# Altium integrated library NSC MiscPower.IntLib: 1417 symbols (part 20 of 39)
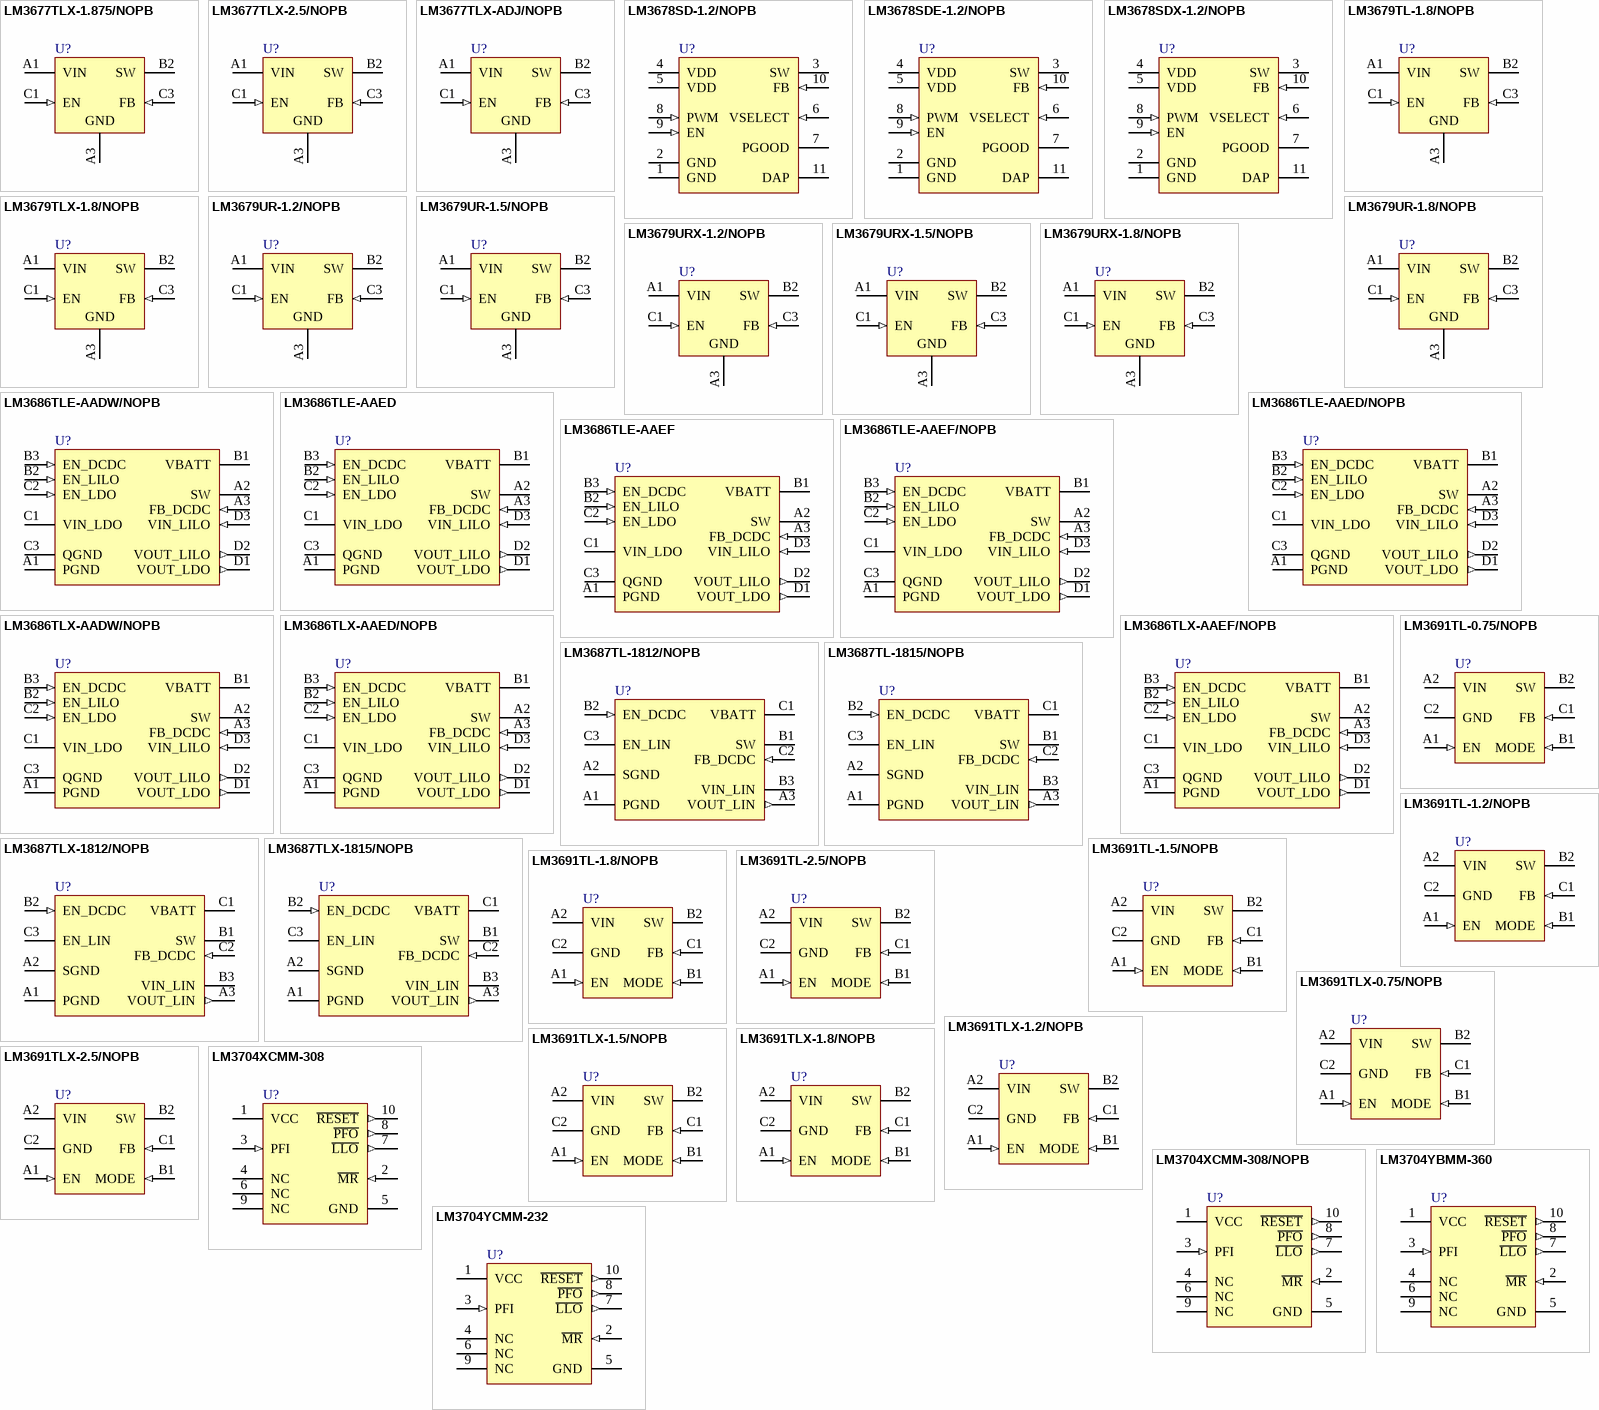
[diagram p70: symbols LM3677TLX-1.875/NOPB to LM3704YCMM-232]

## LM3687TLX-1815/NOPB
designator U?
Step-Down DC-DC Converter with Integrated Low Dropout Regulator and Startup Mode, 9-pin Micro SMD, Pb-Free; PartNumber: LM3687TLX-1815/NOPB; Manufacturer: National Semiconductor; PackageTopMarking: XV*I S9; PowerWise: Y; CompType: MiscPower; Published: 1-Mar-2010; DatasheetVersion: Jul-2008; PackageVersion: revC, Jan-2004; PackageReference: TLA09BBA; Publisher: Altium Limited; PackageDescription: Thin Micro SMD, 9 Bump (Large), 0.5mm Pitch; Supplier 1: Digi-Key; Supplier Part Number 1: LM3687TLX-1815-ND; RoHS: Y; PinCount: 9; Code_JEDEC: MO-211-DD; ComponentLink1Description: LM3687 Datasheet; ComponentLink1URL: http://www.national.com/ds/LM/LM3687.pdf; ComponentLink2Description: LM3687 Web Page; ComponentLink2URL: http://www.national.com/pf/LM/LM3687.html; ComponentLink3Description: TLA09BBA Package Page; ComponentLink3URL: http://www.national.com/packaging/folders/tla09bba.html
footprint TLA09BBA (Micro SMD, 9-Leads, Body 1.54x1.54mm, Pitch 0.5mm, NSC Recommended)
pins: A1 PGND (power), A2 SGND (power), A3 VOUT_LIN (out), B1 SW (power), B2 EN_DCDC (in), B3 VIN_LIN (power), C1 VBATT (power), C2 FB_DCDC (in), C3 EN_LIN (power)

## LM3691TL-0.75/NOPB
designator U?
High Accuracy, Miniature 1A, Step-Down DC-DC Converter for Portable Applications, 6-pin Micro SMD, Pb-Free; PartNumber: LM3691TL-0.75/NOPB; Manufacturer: National Semiconductor; PackageTopMarking: XV*I V; PowerWise: Y; CompType: MiscPower; Published: 1-Mar-2010; DatasheetVersion: Jan-2009; PackageVersion: revC, Jan-2004; PackageReference: TLA06LCA; Publisher: Altium Limited; PackageDescription: Thin Micro SMD, 6 Bump (Large), 0.5mm Pitch; Supplier 1: Digi-Key; Supplier Part Number 1: LM3691TL-0.75TR-ND; Supplier 2: Digi-Key; Supplier Part Number 2: LM3691TL-0.75CT-ND; Supplier 3: Digi-Key; Supplier Part Number 3: LM3691TL-0.75DKR-ND; RoHS: Y; PinCount: 6; Code_JEDEC: MO-211-DB; ComponentLink1Description: LM3691 Datasheet; ComponentLink1URL: http://www.national.com/ds/LM/LM3691.pdf; ComponentLink2Description: LM3691 Web Page; ComponentLink2URL: http://www.national.com/pf/LM/LM3691.html; ComponentLink3Description: TLA06LCA Package Page; ComponentLink3URL: http://www.national.com/packaging/folders/tla06lca.html
footprint TLA06LCA (Micro SMD, 6-Leads, Body 1.57x1.26mm, Pitch 0.5mm, NSC Recommended)
pins: A1 EN (in), A2 VIN (power), B1 MODE (in), B2 SW (power), C1 FB (in), C2 GND (power)

## LM3691TL-1.2/NOPB
designator U?
High Accuracy, Miniature 1A, Step-Down DC-DC Converter for Portable Applications, 6-pin Micro SMD, Pb-Free; PartNumber: LM3691TL-1.2/NOPB; Manufacturer: National Semiconductor; PackageTopMarking: XV*I X; PowerWise: Y; CompType: MiscPower; Published: 1-Mar-2010; DatasheetVersion: Jan-2009; PackageVersion: revC, Jan-2004; PackageReference: TLA06LCA; Publisher: Altium Limited; PackageDescription: Thin Micro SMD, 6 Bump (Large), 0.5mm Pitch; Supplier 1: Digi-Key; Supplier Part Number 1: LM3691TL-1.2TR-ND; Supplier 2: Digi-Key; Supplier Part Number 2: LM3691TL-1.2CT-ND; Supplier 3: Digi-Key; Supplier Part Number 3: LM3691TL-1.2DKR-ND; RoHS: Y; PinCount: 6; Code_JEDEC: MO-211-DB; ComponentLink1Description: LM3691 Datasheet; ComponentLink1URL: http://www.national.com/ds/LM/LM3691.pdf; ComponentLink2Description: LM3691 Web Page; ComponentLink2URL: http://www.national.com/pf/LM/LM3691.html; ComponentLink3Description: TLA06LCA Package Page; ComponentLink3URL: http://www.national.com/packaging/folders/tla06lca.html
footprint TLA06LCA (Micro SMD, 6-Leads, Body 1.57x1.26mm, Pitch 0.5mm, NSC Recommended)
pins: A1 EN (in), A2 VIN (power), B1 MODE (in), B2 SW (power), C1 FB (in), C2 GND (power)

## LM3691TL-1.5/NOPB
designator U?
High Accuracy, Miniature 1A, Step-Down DC-DC Converter for Portable Applications, 6-pin Micro SMD, Pb-Free; PartNumber: LM3691TL-1.5/NOPB; Manufacturer: National Semiconductor; PackageTopMarking: XV*I Y; PowerWise: Y; CompType: MiscPower; Published: 1-Mar-2010; DatasheetVersion: Jan-2009; PackageVersion: revC, Jan-2004; PackageReference: TLA06LCA; Publisher: Altium Limited; PackageDescription: Thin Micro SMD, 6 Bump (Large), 0.5mm Pitch; Supplier 1: Digi-Key; Supplier Part Number 1: LM3691TL-1.5TR-ND; Supplier 2: Digi-Key; Supplier Part Number 2: LM3691TL-1.5CT-ND; Supplier 3: Digi-Key; Supplier Part Number 3: LM3691TL-1.5DKR-ND; RoHS: Y; PinCount: 6; Code_JEDEC: MO-211-DB; ComponentLink1Description: LM3691 Datasheet; ComponentLink1URL: http://www.national.com/ds/LM/LM3691.pdf; ComponentLink2Description: LM3691 Web Page; ComponentLink2URL: http://www.national.com/pf/LM/LM3691.html; ComponentLink3Description: TLA06LCA Package Page; ComponentLink3URL: http://www.national.com/packaging/folders/tla06lca.html
footprint TLA06LCA (Micro SMD, 6-Leads, Body 1.57x1.26mm, Pitch 0.5mm, NSC Recommended)
pins: A1 EN (in), A2 VIN (power), B1 MODE (in), B2 SW (power), C1 FB (in), C2 GND (power)

## LM3691TL-1.8/NOPB
designator U?
High Accuracy, Miniature 1A, Step-Down DC-DC Converter for Portable Applications, 6-pin Micro SMD, Pb-Free; PartNumber: LM3691TL-1.8/NOPB; Manufacturer: National Semiconductor; PackageTopMarking: XV*I Z; PowerWise: Y; CompType: MiscPower; Published: 1-Mar-2010; DatasheetVersion: Jan-2009; PackageVersion: revC, Jan-2004; PackageReference: TLA06LCA; Publisher: Altium Limited; PackageDescription: Thin Micro SMD, 6 Bump (Large), 0.5mm Pitch; Supplier 1: Digi-Key; Supplier Part Number 1: LM3691TL-1.8TR-ND; Supplier 2: Digi-Key; Supplier Part Number 2: LM3691TL-1.8CT-ND; Supplier 3: Digi-Key; Supplier Part Number 3: LM3691TL-1.8DKR-ND; RoHS: Y; PinCount: 6; Code_JEDEC: MO-211-DB; ComponentLink1Description: LM3691 Datasheet; ComponentLink1URL: http://www.national.com/ds/LM/LM3691.pdf; ComponentLink2Description: LM3691 Web Page; ComponentLink2URL: http://www.national.com/pf/LM/LM3691.html; ComponentLink3Description: TLA06LCA Package Page; ComponentLink3URL: http://www.national.com/packaging/folders/tla06lca.html
footprint TLA06LCA (Micro SMD, 6-Leads, Body 1.57x1.26mm, Pitch 0.5mm, NSC Recommended)
pins: A1 EN (in), A2 VIN (power), B1 MODE (in), B2 SW (power), C1 FB (in), C2 GND (power)

## LM3691TL-2.5/NOPB
designator U?
High Accuracy, Miniature 1A, Step-Down DC-DC Converter for Portable Applications, 6-pin Micro SMD, Pb-Free; PartNumber: LM3691TL-2.5/NOPB; Manufacturer: National Semiconductor; PackageTopMarking: XV*I 8; PowerWise: N; CompType: MiscPower; Published: 1-Mar-2010; DatasheetVersion: Jan-2009; PackageVersion: revC, Jan-2004; PackageReference: TLA06LCA; Publisher: Altium Limited; PackageDescription: Thin Micro SMD, 6 Bump (Large), 0.5mm Pitch; Supplier 1: Digi-Key; Supplier Part Number 1: LM3691TL-2.5TR-ND; Supplier 2: Digi-Key; Supplier Part Number 2: LM3691TL-2.5CT-ND; Supplier 3: Digi-Key; Supplier Part Number 3: LM3691TL-2.5DKR-ND; RoHS: Y; PinCount: 6; Code_JEDEC: MO-211-DB; ComponentLink1Description: LM3691 Datasheet; ComponentLink1URL: http://www.national.com/ds/LM/LM3691.pdf; ComponentLink2Description: LM3691 Web Page; ComponentLink2URL: http://www.national.com/pf/LM/LM3691.html; ComponentLink3Description: TLA06LCA Package Page; ComponentLink3URL: http://www.national.com/packaging/folders/tla06lca.html
footprint TLA06LCA (Micro SMD, 6-Leads, Body 1.57x1.26mm, Pitch 0.5mm, NSC Recommended)
pins: A1 EN (in), A2 VIN (power), B1 MODE (in), B2 SW (power), C1 FB (in), C2 GND (power)

## LM3691TLX-0.75/NOPB
designator U?
High Accuracy, Miniature 1A, Step-Down DC-DC Converter for Portable Applications, 6-pin Micro SMD, Pb-Free; PartNumber: LM3691TLX-0.75/NOPB; Manufacturer: National Semiconductor; PackageTopMarking: XV*I V; PowerWise: Y; CompType: MiscPower; Published: 1-Mar-2010; DatasheetVersion: Jan-2009; PackageVersion: revC, Jan-2004; PackageReference: TLA06LCA; Publisher: Altium Limited; PackageDescription: Thin Micro SMD, 6 Bump (Large), 0.5mm Pitch; Supplier 1: Digi-Key; Supplier Part Number 1: LM3691TLX-0.75-ND; RoHS: Y; PinCount: 6; Code_JEDEC: MO-211-DB; ComponentLink1Description: LM3691 Datasheet; ComponentLink1URL: http://www.national.com/ds/LM/LM3691.pdf; ComponentLink2Description: LM3691 Web Page; ComponentLink2URL: http://www.national.com/pf/LM/LM3691.html; ComponentLink3Description: TLA06LCA Package Page; ComponentLink3URL: http://www.national.com/packaging/folders/tla06lca.html
footprint TLA06LCA (Micro SMD, 6-Leads, Body 1.57x1.26mm, Pitch 0.5mm, NSC Recommended)
pins: A1 EN (in), A2 VIN (power), B1 MODE (in), B2 SW (power), C1 FB (in), C2 GND (power)

## LM3691TLX-1.2/NOPB
designator U?
High Accuracy, Miniature 1A, Step-Down DC-DC Converter for Portable Applications, 6-pin Micro SMD, Pb-Free; PartNumber: LM3691TLX-1.2/NOPB; Manufacturer: National Semiconductor; PackageTopMarking: XV*I X; PowerWise: Y; CompType: MiscPower; Published: 1-Mar-2010; DatasheetVersion: Jan-2009; PackageVersion: revC, Jan-2004; PackageReference: TLA06LCA; Publisher: Altium Limited; PackageDescription: Thin Micro SMD, 6 Bump (Large), 0.5mm Pitch; Supplier 1: Digi-Key; Supplier Part Number 1: LM3691TLX-1.2-ND; RoHS: Y; PinCount: 6; Code_JEDEC: MO-211-DB; ComponentLink1Description: LM3691 Datasheet; ComponentLink1URL: http://www.national.com/ds/LM/LM3691.pdf; ComponentLink2Description: LM3691 Web Page; ComponentLink2URL: http://www.national.com/pf/LM/LM3691.html; ComponentLink3Description: TLA06LCA Package Page; ComponentLink3URL: http://www.national.com/packaging/folders/tla06lca.html
footprint TLA06LCA (Micro SMD, 6-Leads, Body 1.57x1.26mm, Pitch 0.5mm, NSC Recommended)
pins: A1 EN (in), A2 VIN (power), B1 MODE (in), B2 SW (power), C1 FB (in), C2 GND (power)

## LM3691TLX-1.5/NOPB
designator U?
High Accuracy, Miniature 1A, Step-Down DC-DC Converter for Portable Applications, 6-pin Micro SMD, Pb-Free; PartNumber: LM3691TLX-1.5/NOPB; Manufacturer: National Semiconductor; PackageTopMarking: XV*I Y; PowerWise: Y; CompType: MiscPower; Published: 1-Mar-2010; DatasheetVersion: Jan-2009; PackageVersion: revC, Jan-2004; PackageReference: TLA06LCA; Publisher: Altium Limited; PackageDescription: Thin Micro SMD, 6 Bump (Large), 0.5mm Pitch; Supplier 1: Digi-Key; Supplier Part Number 1: LM3691TLX-1.5-ND; RoHS: Y; PinCount: 6; Code_JEDEC: MO-211-DB; ComponentLink1Description: LM3691 Datasheet; ComponentLink1URL: http://www.national.com/ds/LM/LM3691.pdf; ComponentLink2Description: LM3691 Web Page; ComponentLink2URL: http://www.national.com/pf/LM/LM3691.html; ComponentLink3Description: TLA06LCA Package Page; ComponentLink3URL: http://www.national.com/packaging/folders/tla06lca.html
footprint TLA06LCA (Micro SMD, 6-Leads, Body 1.57x1.26mm, Pitch 0.5mm, NSC Recommended)
pins: A1 EN (in), A2 VIN (power), B1 MODE (in), B2 SW (power), C1 FB (in), C2 GND (power)

## LM3691TLX-1.8/NOPB
designator U?
High Accuracy, Miniature 1A, Step-Down DC-DC Converter for Portable Applications, 6-pin Micro SMD, Pb-Free; PartNumber: LM3691TLX-1.8/NOPB; Manufacturer: National Semiconductor; PackageTopMarking: XV*I Z; PowerWise: Y; CompType: MiscPower; Published: 1-Mar-2010; DatasheetVersion: Jan-2009; PackageVersion: revC, Jan-2004; PackageReference: TLA06LCA; Publisher: Altium Limited; PackageDescription: Thin Micro SMD, 6 Bump (Large), 0.5mm Pitch; Supplier 1: Digi-Key; Supplier Part Number 1: LM3691TLX-1.8-ND; RoHS: Y; PinCount: 6; Code_JEDEC: MO-211-DB; ComponentLink1Description: LM3691 Datasheet; ComponentLink1URL: http://www.national.com/ds/LM/LM3691.pdf; ComponentLink2Description: LM3691 Web Page; ComponentLink2URL: http://www.national.com/pf/LM/LM3691.html; ComponentLink3Description: TLA06LCA Package Page; ComponentLink3URL: http://www.national.com/packaging/folders/tla06lca.html
footprint TLA06LCA (Micro SMD, 6-Leads, Body 1.57x1.26mm, Pitch 0.5mm, NSC Recommended)
pins: A1 EN (in), A2 VIN (power), B1 MODE (in), B2 SW (power), C1 FB (in), C2 GND (power)

## LM3691TLX-2.5/NOPB
designator U?
High Accuracy, Miniature 1A, Step-Down DC-DC Converter for Portable Applications, 6-pin Micro SMD, Pb-Free; PartNumber: LM3691TLX-2.5/NOPB; Manufacturer: National Semiconductor; PackageTopMarking: XV*I 8; PowerWise: N; CompType: MiscPower; Published: 1-Mar-2010; DatasheetVersion: Jan-2009; PackageVersion: revC, Jan-2004; PackageReference: TLA06LCA; Publisher: Altium Limited; PackageDescription: Thin Micro SMD, 6 Bump (Large), 0.5mm Pitch; Supplier 1: Digi-Key; Supplier Part Number 1: LM3691TLX-2.5-ND; RoHS: Y; PinCount: 6; Code_JEDEC: MO-211-DB; ComponentLink1Description: LM3691 Datasheet; ComponentLink1URL: http://www.national.com/ds/LM/LM3691.pdf; ComponentLink2Description: LM3691 Web Page; ComponentLink2URL: http://www.national.com/pf/LM/LM3691.html; ComponentLink3Description: TLA06LCA Package Page; ComponentLink3URL: http://www.national.com/packaging/folders/tla06lca.html
footprint TLA06LCA (Micro SMD, 6-Leads, Body 1.57x1.26mm, Pitch 0.5mm, NSC Recommended)
pins: A1 EN (in), A2 VIN (power), B1 MODE (in), B2 SW (power), C1 FB (in), C2 GND (power)

## LM3704XCMM-308
designator U?
Microprocessor Supervisory Circuits with Power Fail Input, Low Line Output and Manual Reset, 10-pin MSOP; PartNumber: LM3704XCMM-308; Manufacturer: National Semiconductor; PackageTopMarking: ZXTT*R35B; PowerWise: N; CompType: MiscPower; Published: 4-Dec-2008; DatasheetVersion: Sep-2003; PackageVersion: revB, Jul-2003; PackageReference: MUB10A; Publisher: Altium Limited; PackageDescription: Mini-SO, Molded, .118 x .118 x .034in Body, 10 Lead, .0197in Pitch; RoHS: N; PinCount: 10; Code_JEDEC: MO-187-BA; ComponentLink1Description: LM3704 Datasheet; ComponentLink1URL: http://www.national.com/ds/LM/LM3704.pdf; ComponentLink2Description: LM3704 Web Page; ComponentLink2URL: http://www.national.com/pf/LM/LM3704.html; ComponentLink3Description: MUB10A Package Page; ComponentLink3URL: http://www.national.com/packaging/folders/mub10a.html
footprint MUB10A_N (TSSOP, 10-Leads, Body 3x3mm, Pitch 0.5mm, IPC Medium Density)
footprint MUB10A_L (TSSOP, 10-Leads, Body 3x3mm, Pitch 0.5mm, IPC High Density)
footprint MUB10A_M (TSSOP, 10-Leads, Body 3x3mm, Pitch 0.5mm, IPC Low Density)
pins: 1 VCC (power), 2 ~{MR} (in), 3 PFI (in), 4 NC, 5 GND (power), 6 NC, 7 ~{LLO} (out), 8 ~{PFO} (out), 9 NC, 10 ~{RESET} (out)

## LM3704XCMM-308/NOPB
designator U?
Microprocessor Supervisory Circuits with Power Fail Input, Low Line Output and Manual Reset, 10-pin MSOP, Pb-Free; PartNumber: LM3704XCMM-308/NOPB; Manufacturer: National Semiconductor; PackageTopMarking: ZXTT*R35B; PowerWise: N; CompType: MiscPower; Published: 1-Mar-2010; DatasheetVersion: Sep-2003; PackageVersion: revB, Jul-2003; PackageReference: MUB10A; Publisher: Altium Limited; PackageDescription: Mini-SO, Molded, .118 x .118 x .034in Body, 10 Lead, .0197in Pitch; Supplier 1: Digi-Key; Supplier Part Number 1: LM3704XCMM-308TR-ND; Supplier 2: Digi-Key; Supplier Part Number 2: LM3704XCMM-308CT-ND; Supplier 3: Digi-Key; Supplier Part Number 3: LM3704XCMM-308DKR-ND; Supplier 4: Farnell; Supplier Part Number 4: 1685655; RoHS: Y; PinCount: 10; Code_JEDEC: MO-187-BA; ComponentLink1Description: LM3704 Datasheet; ComponentLink1URL: http://www.national.com/ds/LM/LM3704.pdf; ComponentLink2Description: LM3704 Web Page; ComponentLink2URL: http://www.national.com/pf/LM/LM3704.html; ComponentLink3Description: MUB10A Package Page; ComponentLink3URL: http://www.national.com/packaging/folders/mub10a.html
footprint MUB10A_N (TSSOP, 10-Leads, Body 3x3mm, Pitch 0.5mm, IPC Medium Density)
footprint MUB10A_L (TSSOP, 10-Leads, Body 3x3mm, Pitch 0.5mm, IPC High Density)
footprint MUB10A_M (TSSOP, 10-Leads, Body 3x3mm, Pitch 0.5mm, IPC Low Density)
pins: 1 VCC (power), 2 ~{MR} (in), 3 PFI (in), 4 NC, 5 GND (power), 6 NC, 7 ~{LLO} (out), 8 ~{PFO} (out), 9 NC, 10 ~{RESET} (out)

## LM3704YBMM-360
designator U?
Microprocessor Supervisory Circuits with Power Fail Input, Low Line Output and Manual Reset, 10-pin MSOP; PartNumber: LM3704YBMM-360; Manufacturer: National Semiconductor; PackageTopMarking: ZXTT*R49B; PowerWise: N; CompType: MiscPower; Published: 4-Dec-2008; DatasheetVersion: Sep-2003; PackageVersion: revB, Jul-2003; PackageReference: MUB10A; Publisher: Altium Limited; PackageDescription: Mini-SO, Molded, .118 x .118 x .034in Body, 10 Lead, .0197in Pitch; Supplier 1: Farnell; Supplier Part Number 1: 1312722; RoHS: N; PinCount: 10; Code_JEDEC: MO-187-BA; ComponentLink1Description: LM3704 Datasheet; ComponentLink1URL: http://www.national.com/ds/LM/LM3704.pdf; ComponentLink2Description: LM3704 Web Page; ComponentLink2URL: http://www.national.com/pf/LM/LM3704.html; ComponentLink3Description: MUB10A Package Page; ComponentLink3URL: http://www.national.com/packaging/folders/mub10a.html
footprint MUB10A_N (TSSOP, 10-Leads, Body 3x3mm, Pitch 0.5mm, IPC Medium Density)
footprint MUB10A_L (TSSOP, 10-Leads, Body 3x3mm, Pitch 0.5mm, IPC High Density)
footprint MUB10A_M (TSSOP, 10-Leads, Body 3x3mm, Pitch 0.5mm, IPC Low Density)
pins: 1 VCC (power), 2 ~{MR} (in), 3 PFI (in), 4 NC, 5 GND (power), 6 NC, 7 ~{LLO} (out), 8 ~{PFO} (out), 9 NC, 10 ~{RESET} (out)

## LM3704YCMM-232
designator U?
Microprocessor Supervisory Circuits with Power Fail Input, Low Line Output and Manual Reset, 10-pin MSOP; PartNumber: LM3704YCMM-232; Manufacturer: National Semiconductor; PackageTopMarking: ZXTT*R76B; PowerWise: N; CompType: MiscPower; Published: 4-Dec-2008; DatasheetVersion: Sep-2003; PackageVersion: revB, Jul-2003; PackageReference: MUB10A; Publisher: Altium Limited; PackageDescription: Mini-SO, Molded, .118 x .118 x .034in Body, 10 Lead, .0197in Pitch; Supplier 1: Farnell; Supplier Part Number 1: 1312723; RoHS: N; PinCount: 10; Code_JEDEC: MO-187-BA; ComponentLink1Description: LM3704 Datasheet; ComponentLink1URL: http://www.national.com/ds/LM/LM3704.pdf; ComponentLink2Description: LM3704 Web Page; ComponentLink2URL: http://www.national.com/pf/LM/LM3704.html; ComponentLink3Description: MUB10A Package Page; ComponentLink3URL: http://www.national.com/packaging/folders/mub10a.html
footprint MUB10A_N (TSSOP, 10-Leads, Body 3x3mm, Pitch 0.5mm, IPC Medium Density)
footprint MUB10A_L (TSSOP, 10-Leads, Body 3x3mm, Pitch 0.5mm, IPC High Density)
footprint MUB10A_M (TSSOP, 10-Leads, Body 3x3mm, Pitch 0.5mm, IPC Low Density)
pins: 1 VCC (power), 2 ~{MR} (in), 3 PFI (in), 4 NC, 5 GND (power), 6 NC, 7 ~{LLO} (out), 8 ~{PFO} (out), 9 NC, 10 ~{RESET} (out)

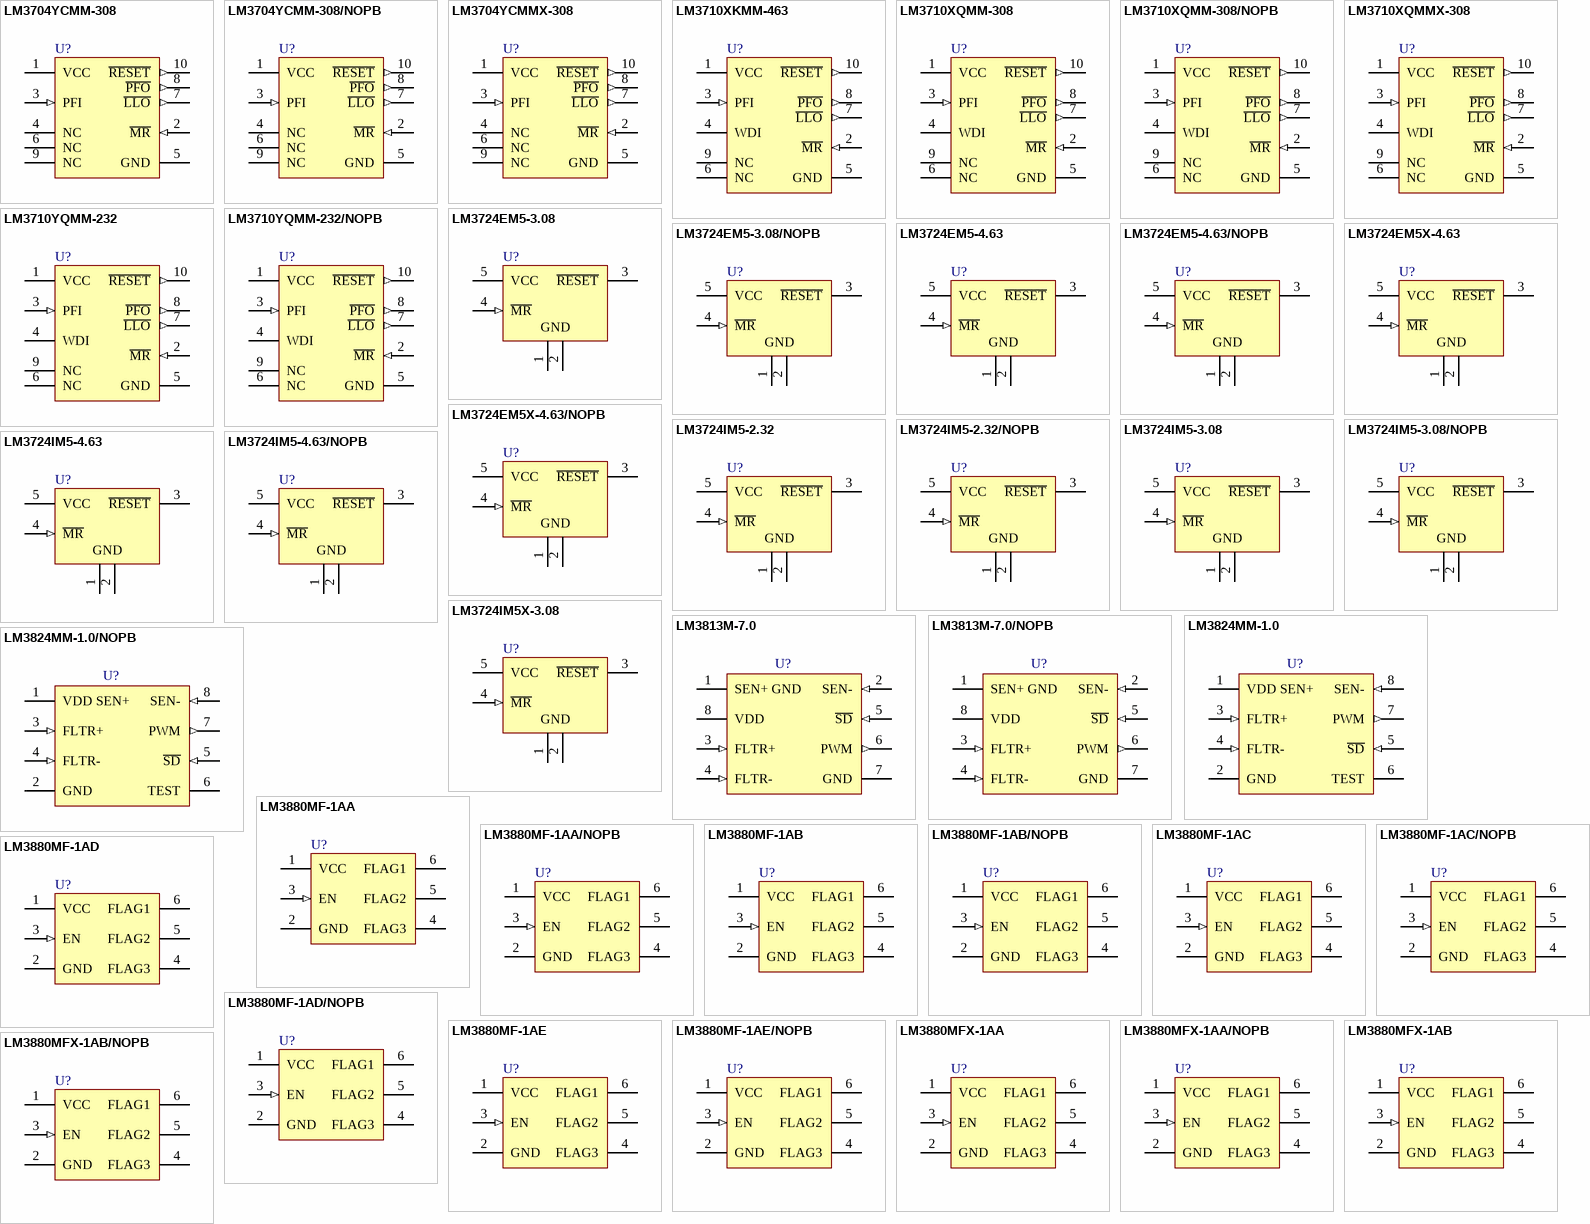
[diagram p22: symbols LM3704YCMM-308 to LM3880MFX-1AB/NOPB]

## LM3704YCMM-308
designator U?
Microprocessor Supervisory Circuits with Power Fail Input, Low Line Output and Manual Reset, 10-pin MSOP; PartNumber: LM3704YCMM-308; Manufacturer: National Semiconductor; PackageTopMarking: ZXTT*R48B; PowerWise: N; CompType: MiscPower; Published: 4-Dec-2008; DatasheetVersion: Sep-2003; PackageVersion: revB, Jul-2003; PackageReference: MUB10A; Publisher: Altium Limited; PackageDescription: Mini-SO, Molded, .118 x .118 x .034in Body, 10 Lead, .0197in Pitch; Supplier 1: Farnell; Supplier Part Number 1: 1312724; RoHS: N; PinCount: 10; Code_JEDEC: MO-187-BA; ComponentLink1Description: LM3704 Datasheet; ComponentLink1URL: http://www.national.com/ds/LM/LM3704.pdf; ComponentLink2Description: LM3704 Web Page; ComponentLink2URL: http://www.national.com/pf/LM/LM3704.html; ComponentLink3Description: MUB10A Package Page; ComponentLink3URL: http://www.national.com/packaging/folders/mub10a.html
footprint MUB10A_N (TSSOP, 10-Leads, Body 3x3mm, Pitch 0.5mm, IPC Medium Density)
footprint MUB10A_L (TSSOP, 10-Leads, Body 3x3mm, Pitch 0.5mm, IPC High Density)
footprint MUB10A_M (TSSOP, 10-Leads, Body 3x3mm, Pitch 0.5mm, IPC Low Density)
pins: 1 VCC (power), 2 ~{MR} (in), 3 PFI (in), 4 NC, 5 GND (power), 6 NC, 7 ~{LLO} (out), 8 ~{PFO} (out), 9 NC, 10 ~{RESET} (out)

## LM3704YCMM-308/NOPB
designator U?
Microprocessor Supervisory Circuits with Power Fail Input, Low Line Output and Manual Reset, 10-pin MSOP, Pb-Free; PartNumber: LM3704YCMM-308/NOPB; Manufacturer: National Semiconductor; PackageTopMarking: ZXTT*R48B; PowerWise: N; CompType: MiscPower; Published: 1-Mar-2010; DatasheetVersion: Sep-2003; PackageVersion: revB, Jul-2003; PackageReference: MUB10A; Publisher: Altium Limited; PackageDescription: Mini-SO, Molded, .118 x .118 x .034in Body, 10 Lead, .0197in Pitch; Supplier 1: Digi-Key; Supplier Part Number 1: LM3704YCMM-308TR-ND; Supplier 2: Digi-Key; Supplier Part Number 2: LM3704YCMM-308CT-ND; Supplier 3: Digi-Key; Supplier Part Number 3: LM3704YCMM-308DKR-ND; RoHS: Y; PinCount: 10; Code_JEDEC: MO-187-BA; ComponentLink1Description: LM3704 Datasheet; ComponentLink1URL: http://www.national.com/ds/LM/LM3704.pdf; ComponentLink2Description: LM3704 Web Page; ComponentLink2URL: http://www.national.com/pf/LM/LM3704.html; ComponentLink3Description: MUB10A Package Page; ComponentLink3URL: http://www.national.com/packaging/folders/mub10a.html
footprint MUB10A_N (TSSOP, 10-Leads, Body 3x3mm, Pitch 0.5mm, IPC Medium Density)
footprint MUB10A_L (TSSOP, 10-Leads, Body 3x3mm, Pitch 0.5mm, IPC High Density)
footprint MUB10A_M (TSSOP, 10-Leads, Body 3x3mm, Pitch 0.5mm, IPC Low Density)
pins: 1 VCC (power), 2 ~{MR} (in), 3 PFI (in), 4 NC, 5 GND (power), 6 NC, 7 ~{LLO} (out), 8 ~{PFO} (out), 9 NC, 10 ~{RESET} (out)

## LM3704YCMMX-308
designator U?
Microprocessor Supervisory Circuits with Power Fail Input, Low Line Output and Manual Reset, 10-pin MSOP; PartNumber: LM3704YCMMX-308; Manufacturer: National Semiconductor; PackageTopMarking: ZXTT*R48B; PowerWise: N; CompType: MiscPower; Published: 1-Mar-2010; DatasheetVersion: Sep-2003; PackageVersion: revB, Jul-2003; PackageReference: MUB10A; Publisher: Altium Limited; PackageDescription: Mini-SO, Molded, .118 x .118 x .034in Body, 10 Lead, .0197in Pitch; RoHS: N; PinCount: 10; Code_JEDEC: MO-187-BA; ComponentLink1Description: LM3704 Datasheet; ComponentLink1URL: http://www.national.com/ds/LM/LM3704.pdf; ComponentLink2Description: LM3704 Web Page; ComponentLink2URL: http://www.national.com/pf/LM/LM3704.html; ComponentLink3Description: MUB10A Package Page; ComponentLink3URL: http://www.national.com/packaging/folders/mub10a.html
footprint MUB10A_N (TSSOP, 10-Leads, Body 3x3mm, Pitch 0.5mm, IPC Medium Density)
footprint MUB10A_L (TSSOP, 10-Leads, Body 3x3mm, Pitch 0.5mm, IPC High Density)
footprint MUB10A_M (TSSOP, 10-Leads, Body 3x3mm, Pitch 0.5mm, IPC Low Density)
pins: 1 VCC (power), 2 ~{MR} (in), 3 PFI (in), 4 NC, 5 GND (power), 6 NC, 7 ~{LLO} (out), 8 ~{PFO} (out), 9 NC, 10 ~{RESET} (out)

## LM3710XKMM-463
designator U?
Microprocessor Supervisory Circuits with Power Fail Input, Low Line Output, Manual Reset and Watchdog Timer, 10-pin MSOP; PartNumber: LM3710XKMM-463; Manufacturer: National Semiconductor; PackageTopMarking: ZXTT*R74B; PowerWise: N; CompType: MiscPower; Published: 4-Dec-2008; DatasheetVersion: Jan-2005; PackageVersion: revB, Jul-2003; PackageReference: MUB10A; Publisher: Altium Limited; PackageDescription: Mini-SO, Molded, .118 x .118 x .034in Body, 10 Lead, .0197in Pitch; RoHS: N; PinCount: 10; Code_JEDEC: MO-187-BA; ComponentLink1Description: LM3710 Datasheet; ComponentLink1URL: http://www.national.com/ds/LM/LM3710.pdf; ComponentLink2Description: LM3710 Web Page; ComponentLink2URL: http://www.national.com/pf/LM/LM3710.html; ComponentLink3Description: MUB10A Package Page; ComponentLink3URL: http://www.national.com/packaging/folders/mub10a.html
footprint MUB10A_N (TSSOP, 10-Leads, Body 3x3mm, Pitch 0.5mm, IPC Medium Density)
footprint MUB10A_L (TSSOP, 10-Leads, Body 3x3mm, Pitch 0.5mm, IPC High Density)
footprint MUB10A_M (TSSOP, 10-Leads, Body 3x3mm, Pitch 0.5mm, IPC Low Density)
pins: 1 VCC (power), 2 ~{MR} (in), 3 PFI (in), 4 WDI, 5 GND (power), 6 NC, 7 ~{LLO} (out), 8 ~{PFO} (out), 9 NC, 10 ~{RESET} (out)

## LM3710XQMM-308
designator U?
Microprocessor Supervisory Circuits with Power Fail Input, Low Line Output, Manual Reset and Watchdog Timer, 10-pin MSOP; PartNumber: LM3710XQMM-308; Manufacturer: National Semiconductor; PackageTopMarking: ZXTT*R37B; PowerWise: N; CompType: MiscPower; Published: 4-Dec-2008; DatasheetVersion: Jan-2005; PackageVersion: revB, Jul-2003; PackageReference: MUB10A; Publisher: Altium Limited; PackageDescription: Mini-SO, Molded, .118 x .118 x .034in Body, 10 Lead, .0197in Pitch; Supplier 1: Farnell; Supplier Part Number 1: 1798323; RoHS: N; PinCount: 10; Code_JEDEC: MO-187-BA; ComponentLink1Description: LM3710 Datasheet; ComponentLink1URL: http://www.national.com/ds/LM/LM3710.pdf; ComponentLink2Description: LM3710 Web Page; ComponentLink2URL: http://www.national.com/pf/LM/LM3710.html; ComponentLink3Description: MUB10A Package Page; ComponentLink3URL: http://www.national.com/packaging/folders/mub10a.html
footprint MUB10A_N (TSSOP, 10-Leads, Body 3x3mm, Pitch 0.5mm, IPC Medium Density)
footprint MUB10A_L (TSSOP, 10-Leads, Body 3x3mm, Pitch 0.5mm, IPC High Density)
footprint MUB10A_M (TSSOP, 10-Leads, Body 3x3mm, Pitch 0.5mm, IPC Low Density)
pins: 1 VCC (power), 2 ~{MR} (in), 3 PFI (in), 4 WDI, 5 GND (power), 6 NC, 7 ~{LLO} (out), 8 ~{PFO} (out), 9 NC, 10 ~{RESET} (out)

## LM3710XQMM-308/NOPB
designator U?
Microprocessor Supervisory Circuits with Power Fail Input, Low Line Output, Manual Reset and Watchdog Timer, 10-pin MSOP, Pb-Free; PartNumber: LM3710XQMM-308/NOPB; Manufacturer: National Semiconductor; PackageTopMarking: ZXTT*R37B; PowerWise: N; CompType: MiscPower; Published: 1-Mar-2010; DatasheetVersion: Jan-2005; PackageVersion: revB, Jul-2003; PackageReference: MUB10A; Publisher: Altium Limited; PackageDescription: Mini-SO, Molded, .118 x .118 x .034in Body, 10 Lead, .0197in Pitch; Supplier 1: Digi-Key; Supplier Part Number 1: LM3710XQMM-308TR-ND; Supplier 2: Digi-Key; Supplier Part Number 2: LM3710XQMM-308CT-ND; Supplier 3: Digi-Key; Supplier Part Number 3: LM3710XQMM-308DKR-ND; Supplier 4: Farnell; Supplier Part Number 4: 1559458; RoHS: Y; PinCount: 10; Code_JEDEC: MO-187-BA; ComponentLink1Description: LM3710 Datasheet; ComponentLink1URL: http://www.national.com/ds/LM/LM3710.pdf; ComponentLink2Description: LM3710 Web Page; ComponentLink2URL: http://www.national.com/pf/LM/LM3710.html; ComponentLink3Description: MUB10A Package Page; ComponentLink3URL: http://www.national.com/packaging/folders/mub10a.html
footprint MUB10A_N (TSSOP, 10-Leads, Body 3x3mm, Pitch 0.5mm, IPC Medium Density)
footprint MUB10A_L (TSSOP, 10-Leads, Body 3x3mm, Pitch 0.5mm, IPC High Density)
footprint MUB10A_M (TSSOP, 10-Leads, Body 3x3mm, Pitch 0.5mm, IPC Low Density)
pins: 1 VCC (power), 2 ~{MR} (in), 3 PFI (in), 4 WDI, 5 GND (power), 6 NC, 7 ~{LLO} (out), 8 ~{PFO} (out), 9 NC, 10 ~{RESET} (out)

## LM3710XQMMX-308
designator U?
Microprocessor Supervisory Circuits with Power Fail Input, Low Line Output, Manual Reset and Watchdog Timer, 10-pin MSOP; PartNumber: LM3710XQMMX-308; Manufacturer: National Semiconductor; PackageTopMarking: ZXTT*R37B; PowerWise: N; CompType: MiscPower; Published: 1-Mar-2010; DatasheetVersion: Jan-2005; PackageVersion: revB, Jul-2003; PackageReference: MUB10A; Publisher: Altium Limited; PackageDescription: Mini-SO, Molded, .118 x .118 x .034in Body, 10 Lead, .0197in Pitch; RoHS: N; PinCount: 10; Code_JEDEC: MO-187-BA; ComponentLink1Description: LM3710 Datasheet; ComponentLink1URL: http://www.national.com/ds/LM/LM3710.pdf; ComponentLink2Description: LM3710 Web Page; ComponentLink2URL: http://www.national.com/pf/LM/LM3710.html; ComponentLink3Description: MUB10A Package Page; ComponentLink3URL: http://www.national.com/packaging/folders/mub10a.html
footprint MUB10A_N (TSSOP, 10-Leads, Body 3x3mm, Pitch 0.5mm, IPC Medium Density)
footprint MUB10A_L (TSSOP, 10-Leads, Body 3x3mm, Pitch 0.5mm, IPC High Density)
footprint MUB10A_M (TSSOP, 10-Leads, Body 3x3mm, Pitch 0.5mm, IPC Low Density)
pins: 1 VCC (power), 2 ~{MR} (in), 3 PFI (in), 4 WDI, 5 GND (power), 6 NC, 7 ~{LLO} (out), 8 ~{PFO} (out), 9 NC, 10 ~{RESET} (out)

## LM3710YQMM-232
designator U?
Microprocessor Supervisory Circuits with Power Fail Input, Low Line Output, Manual Reset and Watchdog Timer, 10-pin MSOP; PartNumber: LM3710YQMM-232; Manufacturer: National Semiconductor; PackageTopMarking: ZXTT*R77B; PowerWise: N; CompType: MiscPower; Published: 4-Dec-2008; DatasheetVersion: Jan-2005; PackageVersion: revB, Jul-2003; PackageReference: MUB10A; Publisher: Altium Limited; PackageDescription: Mini-SO, Molded, .118 x .118 x .034in Body, 10 Lead, .0197in Pitch; Supplier 1: Farnell; Supplier Part Number 1: 1312725; RoHS: N; PinCount: 10; Code_JEDEC: MO-187-BA; ComponentLink1Description: LM3710 Datasheet; ComponentLink1URL: http://www.national.com/ds/LM/LM3710.pdf; ComponentLink2Description: LM3710 Web Page; ComponentLink2URL: http://www.national.com/pf/LM/LM3710.html; ComponentLink3Description: MUB10A Package Page; ComponentLink3URL: http://www.national.com/packaging/folders/mub10a.html
footprint MUB10A_N (TSSOP, 10-Leads, Body 3x3mm, Pitch 0.5mm, IPC Medium Density)
footprint MUB10A_L (TSSOP, 10-Leads, Body 3x3mm, Pitch 0.5mm, IPC High Density)
footprint MUB10A_M (TSSOP, 10-Leads, Body 3x3mm, Pitch 0.5mm, IPC Low Density)
pins: 1 VCC (power), 2 ~{MR} (in), 3 PFI (in), 4 WDI, 5 GND (power), 6 NC, 7 ~{LLO} (out), 8 ~{PFO} (out), 9 NC, 10 ~{RESET} (out)

## LM3710YQMM-232/NOPB
designator U?
Microprocessor Supervisory Circuits with Power Fail Input, Low Line Output, Manual Reset and Watchdog Timer, 10-pin MSOP, Pb-Free; PartNumber: LM3710YQMM-232/NOPB; Manufacturer: National Semiconductor; PackageTopMarking: ZXTT*R77B; PowerWise: N; CompType: MiscPower; Published: 1-Mar-2010; DatasheetVersion: Jan-2005; PackageVersion: revB, Jul-2003; PackageReference: MUB10A; Publisher: Altium Limited; PackageDescription: Mini-SO, Molded, .118 x .118 x .034in Body, 10 Lead, .0197in Pitch; Supplier 1: Digi-Key; Supplier Part Number 1: LM3710YQMM-232TR-ND; Supplier 2: Digi-Key; Supplier Part Number 2: LM3710YQMM-232CT-ND; Supplier 3: Digi-Key; Supplier Part Number 3: LM3710YQMM-232DKR-ND; RoHS: Y; PinCount: 10; Code_JEDEC: MO-187-BA; ComponentLink1Description: LM3710 Datasheet; ComponentLink1URL: http://www.national.com/ds/LM/LM3710.pdf; ComponentLink2Description: LM3710 Web Page; ComponentLink2URL: http://www.national.com/pf/LM/LM3710.html; ComponentLink3Description: MUB10A Package Page; ComponentLink3URL: http://www.national.com/packaging/folders/mub10a.html
footprint MUB10A_N (TSSOP, 10-Leads, Body 3x3mm, Pitch 0.5mm, IPC Medium Density)
footprint MUB10A_L (TSSOP, 10-Leads, Body 3x3mm, Pitch 0.5mm, IPC High Density)
footprint MUB10A_M (TSSOP, 10-Leads, Body 3x3mm, Pitch 0.5mm, IPC Low Density)
pins: 1 VCC (power), 2 ~{MR} (in), 3 PFI (in), 4 WDI, 5 GND (power), 6 NC, 7 ~{LLO} (out), 8 ~{PFO} (out), 9 NC, 10 ~{RESET} (out)

## LM3724EM5-3.08
designator U?
Microprocessor Reset Circuits, 5-pin SOT-23; PartNumber: LM3724EM5-3.08; Manufacturer: National Semiconductor; PackageTopMarking: R63B*XTT; PowerWise: N; CompType: MiscPower; Published: 4-Dec-2008; DatasheetVersion: Jul-2007; PackageVersion: revD, Aug-2008; PackageReference: MF05A; Publisher: Altium Limited; PackageDescription: Molded SOT-23, .115 x .063 x .040 in Body, 5 Lead, .0375 in Pitch; Supplier 1: Farnell; Supplier Part Number 1: 1312735; RoHS: N; PinCount: 5; ComponentLink1Description: LM3724 Datasheet; ComponentLink1URL: http://www.national.com/ds/LM/LM3724.pdf; ComponentLink2Description: LM3724 Web Page; ComponentLink2URL: http://www.national.com/pf/LM/LM3724.html; ComponentLink3Description: MF05A Package Page; ComponentLink3URL: http://www.national.com/packaging/folders/mf05a.html
footprint MF05A_N (SOT23, 5-Leads, Body 2.9x1.6mm, Pitch 0.95mm, Lead Span 2.8mm, IPC Medium Density)
footprint MF05A_L (SOT23, 5-Leads, Body 2.9x1.6mm, Pitch 0.95mm, Lead Span 2.8mm, IPC High Density)
footprint MF05A_M (SOT23, 5-Leads, Body 2.9x1.6mm, Pitch 0.95mm, Lead Span 2.8mm, IPC Low Density)
pins: 1 GND (power), 2 GND (power), 3 ~{RESET} (oc), 4 ~{MR} (in), 5 VCC (power)

## LM3724EM5-3.08/NOPB
designator U?
5-Pin Microprocessor Reset Circuits, 5-pin SOT-23, Pb-Free; PartNumber: LM3724EM5-3.08/NOPB; Manufacturer: National Semiconductor; PackageTopMarking: R63B*XTT; PowerWise: N; CompType: MiscPower; Published: 1-Mar-2010; DatasheetVersion: Jul-2007; PackageVersion: revD, Aug-2008; PackageReference: MF05A; Publisher: Altium Limited; PackageDescription: Molded SOT-23, .115 x .063 x .040 in Body, 5 Lead, .0375 in Pitch; Supplier 1: Digi-Key; Supplier Part Number 1: LM3724EM5-3.08TR-ND; Supplier 2: Digi-Key; Supplier Part Number 2: LM3724EM5-3.08CT-ND; Supplier 3: Digi-Key; Supplier Part Number 3: LM3724EM5-3.08DKR-ND; Supplier 4: Farnell; Supplier Part Number 4: 1694018; RoHS: Y; PinCount: 5; ComponentLink1Description: LM3724 Datasheet; ComponentLink1URL: http://www.national.com/ds/LM/LM3724.pdf; ComponentLink2Description: LM3724 Web Page; ComponentLink2URL: http://www.national.com/pf/LM/LM3724.html; ComponentLink3Description: MF05A Package Page; ComponentLink3URL: http://www.national.com/packaging/folders/mf05a.html
footprint MF05A_N (SOT23, 5-Leads, Body 2.9x1.6mm, Pitch 0.95mm, Lead Span 2.8mm, IPC Medium Density)
footprint MF05A_L (SOT23, 5-Leads, Body 2.9x1.6mm, Pitch 0.95mm, Lead Span 2.8mm, IPC High Density)
footprint MF05A_M (SOT23, 5-Leads, Body 2.9x1.6mm, Pitch 0.95mm, Lead Span 2.8mm, IPC Low Density)
pins: 1 GND (power), 2 GND (power), 3 ~{RESET} (oc), 4 ~{MR} (in), 5 VCC (power)

## LM3724EM5-4.63
designator U?
Microprocessor Reset Circuits, 5-pin SOT-23; PartNumber: LM3724EM5-4.63; Manufacturer: National Semiconductor; PackageTopMarking: R62B*XTT; PowerWise: N; CompType: MiscPower; Published: 4-Dec-2008; DatasheetVersion: Jul-2007; PackageVersion: revD, Aug-2008; PackageReference: MF05A; Publisher: Altium Limited; PackageDescription: Molded SOT-23, .115 x .063 x .040 in Body, 5 Lead, .0375 in Pitch; Supplier 1: Farnell; Supplier Part Number 1: 1312736; RoHS: N; PinCount: 5; ComponentLink1Description: LM3724 Datasheet; ComponentLink1URL: http://www.national.com/ds/LM/LM3724.pdf; ComponentLink2Description: LM3724 Web Page; ComponentLink2URL: http://www.national.com/pf/LM/LM3724.html; ComponentLink3Description: MF05A Package Page; ComponentLink3URL: http://www.national.com/packaging/folders/mf05a.html
footprint MF05A_N (SOT23, 5-Leads, Body 2.9x1.6mm, Pitch 0.95mm, Lead Span 2.8mm, IPC Medium Density)
footprint MF05A_L (SOT23, 5-Leads, Body 2.9x1.6mm, Pitch 0.95mm, Lead Span 2.8mm, IPC High Density)
footprint MF05A_M (SOT23, 5-Leads, Body 2.9x1.6mm, Pitch 0.95mm, Lead Span 2.8mm, IPC Low Density)
pins: 1 GND (power), 2 GND (power), 3 ~{RESET} (oc), 4 ~{MR} (in), 5 VCC (power)

## LM3724EM5-4.63/NOPB
designator U?
5-Pin Microprocessor Reset Circuits, 5-pin SOT-23, Pb-Free; PartNumber: LM3724EM5-4.63/NOPB; Manufacturer: National Semiconductor; PackageTopMarking: R62B*XTT; PowerWise: N; CompType: MiscPower; Published: 1-Mar-2010; DatasheetVersion: Jul-2007; PackageVersion: revD, Aug-2008; PackageReference: MF05A; Publisher: Altium Limited; PackageDescription: Molded SOT-23, .115 x .063 x .040 in Body, 5 Lead, .0375 in Pitch; Supplier 1: Digi-Key; Supplier Part Number 1: LM3724EM5-4.63TR-ND; Supplier 2: Digi-Key; Supplier Part Number 2: LM3724EM5-4.63CT-ND; Supplier 3: Digi-Key; Supplier Part Number 3: LM3724EM5-4.63DKR-ND; RoHS: Y; PinCount: 5; ComponentLink1Description: LM3724 Datasheet; ComponentLink1URL: http://www.national.com/ds/LM/LM3724.pdf; ComponentLink2Description: LM3724 Web Page; ComponentLink2URL: http://www.national.com/pf/LM/LM3724.html; ComponentLink3Description: MF05A Package Page; ComponentLink3URL: http://www.national.com/packaging/folders/mf05a.html
footprint MF05A_N (SOT23, 5-Leads, Body 2.9x1.6mm, Pitch 0.95mm, Lead Span 2.8mm, IPC Medium Density)
footprint MF05A_L (SOT23, 5-Leads, Body 2.9x1.6mm, Pitch 0.95mm, Lead Span 2.8mm, IPC High Density)
footprint MF05A_M (SOT23, 5-Leads, Body 2.9x1.6mm, Pitch 0.95mm, Lead Span 2.8mm, IPC Low Density)
pins: 1 GND (power), 2 GND (power), 3 ~{RESET} (oc), 4 ~{MR} (in), 5 VCC (power)

## LM3724EM5X-4.63
designator U?
5-Pin Microprocessor Reset Circuits, 5-pin SOT-23; PartNumber: LM3724EM5X-4.63; Manufacturer: National Semiconductor; PackageTopMarking: R62B*XTT; PowerWise: N; CompType: MiscPower; Published: 1-Mar-2010; DatasheetVersion: Jul-2007; PackageVersion: revD, Aug-2008; PackageReference: MF05A; Publisher: Altium Limited; PackageDescription: Molded SOT-23, .115 x .063 x .040 in Body, 5 Lead, .0375 in Pitch; Supplier 1: Digi-Key; Supplier Part Number 1: LM3724EM5X-4.63-ND; RoHS: N; PinCount: 5; ComponentLink1Description: LM3724 Datasheet; ComponentLink1URL: http://www.national.com/ds/LM/LM3724.pdf; ComponentLink2Description: LM3724 Web Page; ComponentLink2URL: http://www.national.com/pf/LM/LM3724.html; ComponentLink3Description: MF05A Package Page; ComponentLink3URL: http://www.national.com/packaging/folders/mf05a.html
footprint MF05A_N (SOT23, 5-Leads, Body 2.9x1.6mm, Pitch 0.95mm, Lead Span 2.8mm, IPC Medium Density)
footprint MF05A_L (SOT23, 5-Leads, Body 2.9x1.6mm, Pitch 0.95mm, Lead Span 2.8mm, IPC High Density)
footprint MF05A_M (SOT23, 5-Leads, Body 2.9x1.6mm, Pitch 0.95mm, Lead Span 2.8mm, IPC Low Density)
pins: 1 GND (power), 2 GND (power), 3 ~{RESET} (oc), 4 ~{MR} (in), 5 VCC (power)

## LM3724EM5X-4.63/NOPB
designator U?
5-Pin Microprocessor Reset Circuits, 5-pin SOT-23, Pb-Free; PartNumber: LM3724EM5X-4.63/NOPB; Manufacturer: National Semiconductor; PackageTopMarking: R62B*XTT; PowerWise: N; CompType: MiscPower; Published: 1-Mar-2010; DatasheetVersion: Jul-2007; PackageVersion: revD, Aug-2008; PackageReference: MF05A; Publisher: Altium Limited; PackageDescription: Molded SOT-23, .115 x .063 x .040 in Body, 5 Lead, .0375 in Pitch; RoHS: Y; PinCount: 5; ComponentLink1Description: LM3724 Datasheet; ComponentLink1URL: http://www.national.com/ds/LM/LM3724.pdf; ComponentLink2Description: LM3724 Web Page; ComponentLink2URL: http://www.national.com/pf/LM/LM3724.html; ComponentLink3Description: MF05A Package Page; ComponentLink3URL: http://www.national.com/packaging/folders/mf05a.html
footprint MF05A_N (SOT23, 5-Leads, Body 2.9x1.6mm, Pitch 0.95mm, Lead Span 2.8mm, IPC Medium Density)
footprint MF05A_L (SOT23, 5-Leads, Body 2.9x1.6mm, Pitch 0.95mm, Lead Span 2.8mm, IPC High Density)
footprint MF05A_M (SOT23, 5-Leads, Body 2.9x1.6mm, Pitch 0.95mm, Lead Span 2.8mm, IPC Low Density)
pins: 1 GND (power), 2 GND (power), 3 ~{RESET} (oc), 4 ~{MR} (in), 5 VCC (power)

## LM3724IM5-2.32
designator U?
Microprocessor Reset Circuits, 5-pin SOT-23; PartNumber: LM3724IM5-2.32; Manufacturer: National Semiconductor; PackageTopMarking: R50B*XTT; PowerWise: N; CompType: MiscPower; Published: 4-Dec-2008; DatasheetVersion: Jul-2007; PackageVersion: revD, Aug-2008; PackageReference: MF05A; Publisher: Altium Limited; PackageDescription: Molded SOT-23, .115 x .063 x .040 in Body, 5 Lead, .0375 in Pitch; Supplier 1: Farnell; Supplier Part Number 1: 9779060; RoHS: N; PinCount: 5; ComponentLink1Description: LM3724 Datasheet; ComponentLink1URL: http://www.national.com/ds/LM/LM3724.pdf; ComponentLink2Description: LM3724 Web Page; ComponentLink2URL: http://www.national.com/pf/LM/LM3724.html; ComponentLink3Description: MF05A Package Page; ComponentLink3URL: http://www.national.com/packaging/folders/mf05a.html
footprint MF05A_N (SOT23, 5-Leads, Body 2.9x1.6mm, Pitch 0.95mm, Lead Span 2.8mm, IPC Medium Density)
footprint MF05A_L (SOT23, 5-Leads, Body 2.9x1.6mm, Pitch 0.95mm, Lead Span 2.8mm, IPC High Density)
footprint MF05A_M (SOT23, 5-Leads, Body 2.9x1.6mm, Pitch 0.95mm, Lead Span 2.8mm, IPC Low Density)
pins: 1 GND (power), 2 GND (power), 3 ~{RESET} (oc), 4 ~{MR} (in), 5 VCC (power)

## LM3724IM5-2.32/NOPB
designator U?
5-Pin Microprocessor Reset Circuits, 5-pin SOT-23, Pb-Free; PartNumber: LM3724IM5-2.32/NOPB; Manufacturer: National Semiconductor; PackageTopMarking: R50B*XTT; PowerWise: N; CompType: MiscPower; Published: 1-Mar-2010; DatasheetVersion: Jul-2007; PackageVersion: revD, Aug-2008; PackageReference: MF05A; Publisher: Altium Limited; PackageDescription: Molded SOT-23, .115 x .063 x .040 in Body, 5 Lead, .0375 in Pitch; Supplier 1: Digi-Key; Supplier Part Number 1: LM3724IM5-2.32TR-ND; Supplier 2: Digi-Key; Supplier Part Number 2: LM3724IM5-2.32CT-ND; Supplier 3: Digi-Key; Supplier Part Number 3: LM3724IM5-2.32DKR-ND; Supplier 4: Farnell; Supplier Part Number 4: 1694019; RoHS: Y; PinCount: 5; ComponentLink1Description: LM3724 Datasheet; ComponentLink1URL: http://www.national.com/ds/LM/LM3724.pdf; ComponentLink2Description: LM3724 Web Page; ComponentLink2URL: http://www.national.com/pf/LM/LM3724.html; ComponentLink3Description: MF05A Package Page; ComponentLink3URL: http://www.national.com/packaging/folders/mf05a.html
footprint MF05A_N (SOT23, 5-Leads, Body 2.9x1.6mm, Pitch 0.95mm, Lead Span 2.8mm, IPC Medium Density)
footprint MF05A_L (SOT23, 5-Leads, Body 2.9x1.6mm, Pitch 0.95mm, Lead Span 2.8mm, IPC High Density)
footprint MF05A_M (SOT23, 5-Leads, Body 2.9x1.6mm, Pitch 0.95mm, Lead Span 2.8mm, IPC Low Density)
pins: 1 GND (power), 2 GND (power), 3 ~{RESET} (oc), 4 ~{MR} (in), 5 VCC (power)

## LM3724IM5-3.08
designator U?
Microprocessor Reset Circuits, 5-pin SOT-23; PartNumber: LM3724IM5-3.08; Manufacturer: National Semiconductor; PackageTopMarking: R53B*XTT; PowerWise: N; CompType: MiscPower; Published: 4-Dec-2008; DatasheetVersion: Jul-2007; PackageVersion: revD, Aug-2008; PackageReference: MF05A; Publisher: Altium Limited; PackageDescription: Molded SOT-23, .115 x .063 x .040 in Body, 5 Lead, .0375 in Pitch; Supplier 1: Farnell; Supplier Part Number 1: 9779078RL; Supplier 2: Farnell; Supplier Part Number 2: 9779078; RoHS: N; PinCount: 5; ComponentLink1Description: LM3724 Datasheet; ComponentLink1URL: http://www.national.com/ds/LM/LM3724.pdf; ComponentLink2Description: LM3724 Web Page; ComponentLink2URL: http://www.national.com/pf/LM/LM3724.html; ComponentLink3Description: MF05A Package Page; ComponentLink3URL: http://www.national.com/packaging/folders/mf05a.html
footprint MF05A_N (SOT23, 5-Leads, Body 2.9x1.6mm, Pitch 0.95mm, Lead Span 2.8mm, IPC Medium Density)
footprint MF05A_L (SOT23, 5-Leads, Body 2.9x1.6mm, Pitch 0.95mm, Lead Span 2.8mm, IPC High Density)
footprint MF05A_M (SOT23, 5-Leads, Body 2.9x1.6mm, Pitch 0.95mm, Lead Span 2.8mm, IPC Low Density)
pins: 1 GND (power), 2 GND (power), 3 ~{RESET} (oc), 4 ~{MR} (in), 5 VCC (power)

## LM3724IM5-3.08/NOPB
designator U?
5-Pin Microprocessor Reset Circuits, 5-pin SOT-23, Pb-Free; PartNumber: LM3724IM5-3.08/NOPB; Manufacturer: National Semiconductor; PackageTopMarking: R53B*XTT; PowerWise: N; CompType: MiscPower; Published: 1-Mar-2010; DatasheetVersion: Jul-2007; PackageVersion: revD, Aug-2008; PackageReference: MF05A; Publisher: Altium Limited; PackageDescription: Molded SOT-23, .115 x .063 x .040 in Body, 5 Lead, .0375 in Pitch; Supplier 1: Digi-Key; Supplier Part Number 1: LM3724IM5-3.08TR-ND; Supplier 2: Digi-Key; Supplier Part Number 2: LM3724IM5-3.08CT-ND; Supplier 3: Digi-Key; Supplier Part Number 3: LM3724IM5-3.08DKR-ND; Supplier 4: Farnell; Supplier Part Number 4: 1286347; RoHS: Y; PinCount: 5; ComponentLink1Description: LM3724 Datasheet; ComponentLink1URL: http://www.national.com/ds/LM/LM3724.pdf; ComponentLink2Description: LM3724 Web Page; ComponentLink2URL: http://www.national.com/pf/LM/LM3724.html; ComponentLink3Description: MF05A Package Page; ComponentLink3URL: http://www.national.com/packaging/folders/mf05a.html
footprint MF05A_N (SOT23, 5-Leads, Body 2.9x1.6mm, Pitch 0.95mm, Lead Span 2.8mm, IPC Medium Density)
footprint MF05A_L (SOT23, 5-Leads, Body 2.9x1.6mm, Pitch 0.95mm, Lead Span 2.8mm, IPC High Density)
footprint MF05A_M (SOT23, 5-Leads, Body 2.9x1.6mm, Pitch 0.95mm, Lead Span 2.8mm, IPC Low Density)
pins: 1 GND (power), 2 GND (power), 3 ~{RESET} (oc), 4 ~{MR} (in), 5 VCC (power)

## LM3724IM5-4.63
designator U?
Microprocessor Reset Circuits, 5-pin SOT-23; PartNumber: LM3724IM5-4.63; Manufacturer: National Semiconductor; PackageTopMarking: R55B*XTT; PowerWise: N; CompType: MiscPower; Published: 4-Dec-2008; DatasheetVersion: Jul-2007; PackageVersion: revD, Aug-2008; PackageReference: MF05A; Publisher: Altium Limited; PackageDescription: Molded SOT-23, .115 x .063 x .040 in Body, 5 Lead, .0375 in Pitch; Supplier 1: Farnell; Supplier Part Number 1: 9779086; RoHS: N; PinCount: 5; ComponentLink1Description: LM3724 Datasheet; ComponentLink1URL: http://www.national.com/ds/LM/LM3724.pdf; ComponentLink2Description: LM3724 Web Page; ComponentLink2URL: http://www.national.com/pf/LM/LM3724.html; ComponentLink3Description: MF05A Package Page; ComponentLink3URL: http://www.national.com/packaging/folders/mf05a.html
footprint MF05A_N (SOT23, 5-Leads, Body 2.9x1.6mm, Pitch 0.95mm, Lead Span 2.8mm, IPC Medium Density)
footprint MF05A_L (SOT23, 5-Leads, Body 2.9x1.6mm, Pitch 0.95mm, Lead Span 2.8mm, IPC High Density)
footprint MF05A_M (SOT23, 5-Leads, Body 2.9x1.6mm, Pitch 0.95mm, Lead Span 2.8mm, IPC Low Density)
pins: 1 GND (power), 2 GND (power), 3 ~{RESET} (oc), 4 ~{MR} (in), 5 VCC (power)

## LM3724IM5-4.63/NOPB
designator U?
5-Pin Microprocessor Reset Circuits, 5-pin SOT-23, Pb-Free; PartNumber: LM3724IM5-4.63/NOPB; Manufacturer: National Semiconductor; PackageTopMarking: R55B*XTT; PowerWise: N; CompType: MiscPower; Published: 1-Mar-2010; DatasheetVersion: Jul-2007; PackageVersion: revD, Aug-2008; PackageReference: MF05A; Publisher: Altium Limited; PackageDescription: Molded SOT-23, .115 x .063 x .040 in Body, 5 Lead, .0375 in Pitch; Supplier 1: Digi-Key; Supplier Part Number 1: LM3724IM5-4.63TR-ND; Supplier 2: Digi-Key; Supplier Part Number 2: LM3724IM5-4.63CT-ND; Supplier 3: Digi-Key; Supplier Part Number 3: LM3724IM5-4.63DKR-ND; RoHS: Y; PinCount: 5; ComponentLink1Description: LM3724 Datasheet; ComponentLink1URL: http://www.national.com/ds/LM/LM3724.pdf; ComponentLink2Description: LM3724 Web Page; ComponentLink2URL: http://www.national.com/pf/LM/LM3724.html; ComponentLink3Description: MF05A Package Page; ComponentLink3URL: http://www.national.com/packaging/folders/mf05a.html
footprint MF05A_N (SOT23, 5-Leads, Body 2.9x1.6mm, Pitch 0.95mm, Lead Span 2.8mm, IPC Medium Density)
footprint MF05A_L (SOT23, 5-Leads, Body 2.9x1.6mm, Pitch 0.95mm, Lead Span 2.8mm, IPC High Density)
footprint MF05A_M (SOT23, 5-Leads, Body 2.9x1.6mm, Pitch 0.95mm, Lead Span 2.8mm, IPC Low Density)
pins: 1 GND (power), 2 GND (power), 3 ~{RESET} (oc), 4 ~{MR} (in), 5 VCC (power)

## LM3724IM5X-3.08
designator U?
5-Pin Microprocessor Reset Circuits, 5-pin SOT-23; PartNumber: LM3724IM5X-3.08; Manufacturer: National Semiconductor; PackageTopMarking: R53B*XTT; PowerWise: N; CompType: MiscPower; Published: 1-Mar-2010; DatasheetVersion: Jul-2007; PackageVersion: revD, Aug-2008; PackageReference: MF05A; Publisher: Altium Limited; PackageDescription: Molded SOT-23, .115 x .063 x .040 in Body, 5 Lead, .0375 in Pitch; RoHS: N; PinCount: 5; ComponentLink1Description: LM3724 Datasheet; ComponentLink1URL: http://www.national.com/ds/LM/LM3724.pdf; ComponentLink2Description: LM3724 Web Page; ComponentLink2URL: http://www.national.com/pf/LM/LM3724.html; ComponentLink3Description: MF05A Package Page; ComponentLink3URL: http://www.national.com/packaging/folders/mf05a.html
footprint MF05A_N (SOT23, 5-Leads, Body 2.9x1.6mm, Pitch 0.95mm, Lead Span 2.8mm, IPC Medium Density)
footprint MF05A_L (SOT23, 5-Leads, Body 2.9x1.6mm, Pitch 0.95mm, Lead Span 2.8mm, IPC High Density)
footprint MF05A_M (SOT23, 5-Leads, Body 2.9x1.6mm, Pitch 0.95mm, Lead Span 2.8mm, IPC Low Density)
pins: 1 GND (power), 2 GND (power), 3 ~{RESET} (oc), 4 ~{MR} (in), 5 VCC (power)

## LM3813M-7.0
designator U?
Precision Current Gauge IC with Ultra Low Loss Sense Element and PWM Output, for Low-Side Sensing, 8-pin Narrow SOIC; PartNumber: LM3813M-7.0; Manufacturer: National Semiconductor; PackageTopMarking: NSZXTT*3813*M-7.0; PowerWise: N; CompType: MiscPower; Published: 4-Dec-2008; DatasheetVersion: Feb-2005; PackageVersion: revM, May-2009; PackageReference: M08A; Publisher: Altium Limited; PackageDescription: SOIC Narrow, 4.9 x 3.9 x 1.45mm, 8 Lead, 1.27mm Pitch; RoHS: N; PinCount: 8; Code_JEDEC: MS-012-AA; Code_IPC: SOIC127P600-8; ComponentLink1Description: LM3813 Datasheet; ComponentLink1URL: http://www.national.com/ds/LM/LM3813.pdf; ComponentLink2Description: LM3813 Web Page; ComponentLink2URL: http://www.national.com/pf/LM/LM3813.html; ComponentLink3Description: M08A Package Page; ComponentLink3URL: http://www.national.com/packaging/folders/m08a.html
footprint M08A_N (SOIC, 8-Leads, Body 4.9x3.9mm, Pitch 1.27mm, IPC Medium Density)
footprint M08A_L (SOIC, 8-Leads, Body 4.9x3.9mm, Pitch 1.27mm, IPC High Density)
footprint M08A_M (SOIC, 8-Leads, Body 4.9x3.9mm, Pitch 1.27mm, IPC Low Density)
pins: 1 SEN+ GND (power), 2 SEN- (in), 3 FLTR+ (in), 4 FLTR- (in), 5 ~{SD} (in), 6 PWM (out), 7 GND (power), 8 VDD (power)

## LM3813M-7.0/NOPB
designator U?
Precision Current Gauge IC with Ultra Low Loss Sense Element and PWM Output, for Low-Side Sensing, 8-pin Narrow SOIC, Pb-Free; PartNumber: LM3813M-7.0/NOPB; Manufacturer: National Semiconductor; PackageTopMarking: NSZXTT*3813*M-7.0; PowerWise: N; CompType: MiscPower; Published: 1-Mar-2010; DatasheetVersion: Feb-2005; PackageVersion: revM, May-2009; PackageReference: M08A; Publisher: Altium Limited; PackageDescription: SOIC Narrow, 4.9 x 3.9 x 1.45mm, 8 Lead, 1.27mm Pitch; Supplier 1: Digi-Key; Supplier Part Number 1: LM3813M-7.0-ND; RoHS: Y; PinCount: 8; Code_JEDEC: MS-012-AA; Code_IPC: SOIC127P600-8; ComponentLink1Description: LM3813 Datasheet; ComponentLink1URL: http://www.national.com/ds/LM/LM3813.pdf; ComponentLink2Description: LM3813 Web Page; ComponentLink2URL: http://www.national.com/pf/LM/LM3813.html; ComponentLink3Description: M08A Package Page; ComponentLink3URL: http://www.national.com/packaging/folders/m08a.html
footprint M08A_N (SOIC, 8-Leads, Body 4.9x3.9mm, Pitch 1.27mm, IPC Medium Density)
footprint M08A_L (SOIC, 8-Leads, Body 4.9x3.9mm, Pitch 1.27mm, IPC High Density)
footprint M08A_M (SOIC, 8-Leads, Body 4.9x3.9mm, Pitch 1.27mm, IPC Low Density)
pins: 1 SEN+ GND (power), 2 SEN- (in), 3 FLTR+ (in), 4 FLTR- (in), 5 ~{SD} (in), 6 PWM (out), 7 GND (power), 8 VDD (power)